# EAGLE library part TBD62064AFAG,EHZ (library toshiba)
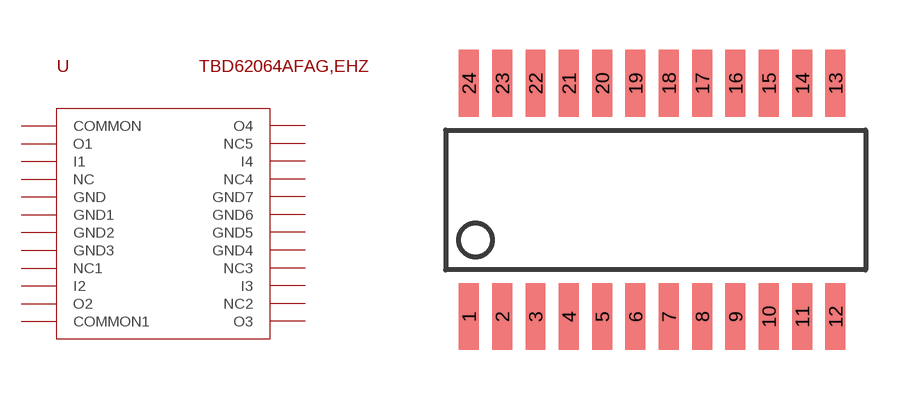
[diagram p4: symbol with the pads of TBD62064AFAG,EHZ; footprint TBD62064AFAG,EHZ]

Designator prefix U

## TBD62064AFAG,EHZ  [TBD62064AFAG,EHZ]
1  COMMON
2  O1
3  I1
4  NC
5  GND
6  GND1
7  GND2
8  GND3
9  NC1
10  I2
11  O2
12  COMMON1
13  O3
14  NC2
15  I3
16  NC3
17  GND4
18  GND5
19  GND6
20  GND7
21  NC4
22  I4
23  NC5
24  O4

## Footprint TBD62064AFAG,EHZ (pad centres in mm)
smd 0.6 x 2: 1 0,0; 2 1,0; 3 2,0; 4 3,0; 5 4,0; 6 5,0; 7 6,0; 8 7,0; 9 8,0; 10 9,0; 11 10,0; 12 11,0; 13 11,7; 14 10,7; 15 9,7; 16 8,7; 17 7,7; 18 6,7; 19 5,7; 20 4,7; 21 3,7; 22 2,7; 23 1,7; 24 0,7